# EAGLE library part JST-BM07B-GHS-TBT (library TotU)
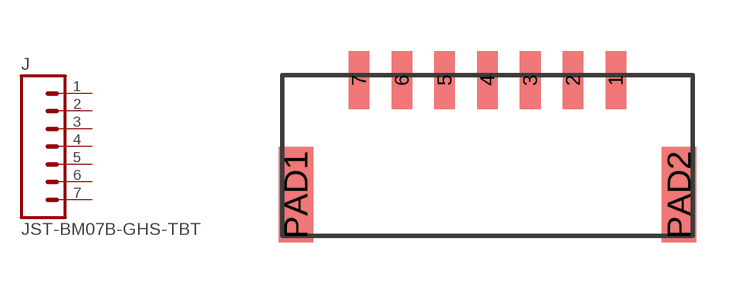
[diagram p0: symbol with the pads of JST-BM07B-GHS-TBT; footprint JST-BM07B-GHS-TBT]

Designator prefix J

## JST-BM07B-GHS-TBT  [JST-BM07B-GHS-TBT]
1  1  pas
2  2  pas
3  3  pas
4  4  pas
5  5  pas
6  6  pas
7  7  pas

## Footprint JST-BM07B-GHS-TBT (pad centres in mm)
smd 0.6 x 1.7: 1 3.125,2.54; 2 1.875,2.54; 3 0.625,2.54; 4 -0.625,2.54; 5 -1.875,2.54; 6 -3.125,2.54; 7 -4.375,2.54
smd 1 x 2.8: PAD1 -6.225,-0.81; PAD2 4.975,-0.81